# Altium footprint library GPS_Traking_V1_1.PcbLib: 54 footprints (part 3 of 4)
Each footprint in its own frame and in the unit in brackets; x right, y up, seen from the top. Pads: shape width x height; smd on the part's side, far side on the other; paste and mask are expansions set on the pad; w line width, h text height; cw(c..) or ccw(c..) is an arc to the next point about the centre after c.
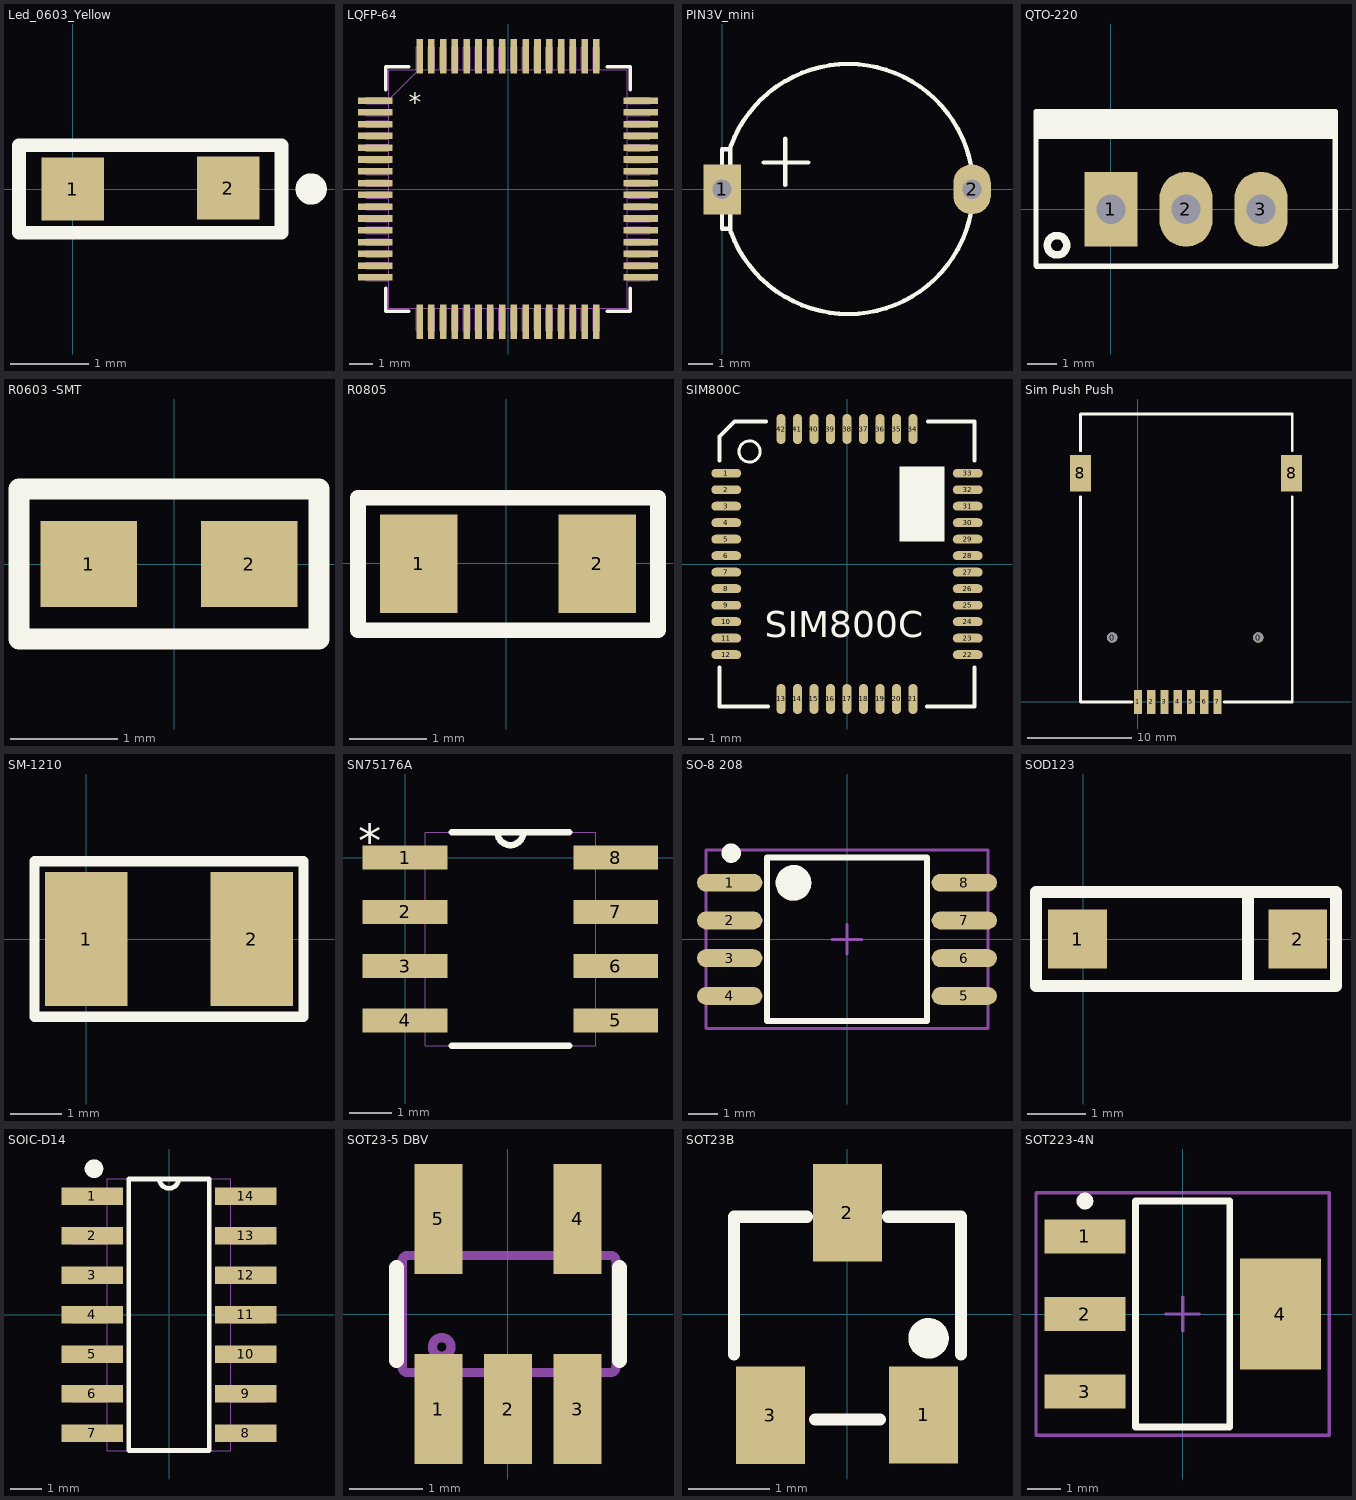
[diagram p2: the footprints below, top view; thin cyan lines are the x and y axes]

## Led_0603_Yellow [mm]
pads (2):
  rect 0.8x0.8 smd: 1(0,0) 2(1.991,0.013)
Top Overlay:
  circle w0.2: c3.048,0 r0.1
  lines w0.178: -0.686,-0.559 2.667,-0.559 2.667,0.559 -0.686,0.559 -0.686,-0.559
3D body "User Library-led0603_YEL.STEP": height 1.1, standoff 0, extent 0.206,-0.4 1.826,0.4

## LQFP-64 [mil]
pads (64):
  rect 58x11 smd: 1(-221.5,147.64) 2(-221.5,127.95) 3(-221.5,108.27) 4(-221.5,88.58) 5(-221.5,68.9) 6(-221.5,49.21) 7(-221.5,29.53) 8(-221.5,9.84) 9(-221.5,-9.84) 10(-221.5,-29.53) 11(-221.5,-49.21) 12(-221.5,-68.9) 13(-221.5,-88.58) 14(-221.5,-108.27) 15(-221.5,-127.95) 16(-221.5,-147.64) 33(221.5,-147.64) 34(221.5,-127.95) 35(221.5,-108.27) 36(221.5,-88.58) 37(221.5,-68.9) 38(221.5,-49.21) 39(221.5,-29.53) 40(221.5,-9.84) 41(221.5,9.84) 42(221.5,29.53) 43(221.5,49.21) 44(221.5,68.9) 45(221.5,88.58) 46(221.5,108.27) 47(221.5,127.95) 48(221.5,147.64)
  rect 11x58 smd: 17(-147.64,-221.5) 18(-127.95,-221.5) 19(-108.27,-221.5) 20(-88.58,-221.5) 21(-68.9,-221.5) 22(-49.21,-221.5) 23(-29.53,-221.5) 24(-9.84,-221.5) 25(9.84,-221.5) 26(29.53,-221.5) 27(49.21,-221.5) 28(68.9,-221.5) 29(88.58,-221.5) 30(108.27,-221.5) 31(127.95,-221.5) 32(147.64,-221.5) 49(147.64,221.5) 50(127.95,221.5) 51(108.27,221.5) 52(88.58,221.5) 53(68.9,221.5) 54(49.21,221.5) 55(29.53,221.5) 56(9.84,221.5) 57(-9.84,221.5) 58(-29.53,221.5) 59(-49.21,221.5) 60(-68.9,221.5) 61(-88.58,221.5) 62(-108.27,221.5) 63(-127.95,221.5) 64(-147.64,221.5)
Top Overlay:
  lines w6: -204,-166.24 -204,-204 -166.24,-204 ; -204,166.24 -204,204 -166.24,204 ; 166.24,-204 204,-204 204,-166.24 ; 166.24,204 204,204 204,166.24
  text "*" at -165.35,129.92 h31.25
Mechanical 1:
  drawing of 261 lines, arcs and shapes, not listed
  text "*" at -184,157.48 h31.25
3D body "LQFP-64.step": height 63.11, standoff 0, extent -236.49,-236.49 236.5,236.5

## PIN3V_mini [mil]
pads (2):
  rect 60x80 hole 31: 1(0,0)
  oval 60x80 hole 31: 2(400,0)
Top Overlay:
  lines w7: 11,64 0,64 0,-63 13,-63 ; 13,-64 13,65 ; 14,-67.81 ccw(c201.94,0.6) 14,69 ; 67,43 138,43 ; 101,7 101,81

## QTO-220 [mm]
pads (3):
  rect 1.8x2.54 hole 0.991: 1(0,0)
  oval 1.8x2.54 hole 0.991: 2(2.54,0) 3(5.08,0)
Top Overlay:
  circle w0.254: c-1.83,-1.219 r0.329
  rectangle: -2.515,2.388 7.62,3.302
  lines w0.178: 7.569,2.718 7.595,2.362 ; -2.54,-1.905 -2.515,-1.93 -1.93,-1.93 7.62,-1.93 7.595,-1.905 7.595,3.302 -2.54,3.302 -2.54,-1.905

## R0603 -SMT [mm]
pads (2):
  rect 0.9x0.8 smd: 1(-0.8,0) 2(0.7,0)
Top Overlay:
  lines w0.2: -1.45,-0.7 -1.45,0.7 1.35,0.7 1.35,-0.7 -1.45,-0.7
Mechanical 16:
  lines w0.15: -1.45,-0.7 1.35,-0.7 1.35,0.7 -1.45,0.7 -1.45,-0.7
3D body "User Library-RES_1609-0603.STEP": height 0.56, standoff 0, extent -0.85,-0.4 0.85,0.4

## R0805 [mm]
pads (2):
  rect 1x1.27 smd: 1(-1.125,-0.011) 2(1.175,-0.011)
Top Overlay:
  lines w0.2: -1.905,-0.864 -1.905,0.838 1.956,0.838 1.956,-0.864 -1.905,-0.864
3D body "User Library-RES_2013-0805.STEP": height 0.76, standoff 0, extent -1.099,-0.686 1.201,0.664

## SIM800C [mm]
pads (42):
  oval 2x0.6 smd: 1(-8.05,6.05) 2(-8.05,4.95) 3(-8.05,3.85) 4(-8.05,2.75) 5(-8.05,1.65) 6(-8.05,0.55) 7(-8.05,-0.55) 8(-8.05,-1.65) 9(-8.05,-2.75) 10(-8.05,-3.85) 11(-8.05,-4.95) 12(-8.05,-6.05) 22(8.05,-6.05) 23(8.05,-4.95) 24(8.05,-3.85) 25(8.05,-2.75) 26(8.05,-1.65) 27(8.05,-0.55) 28(8.05,0.55) 29(8.05,1.65) 30(8.05,2.75) 31(8.05,3.85) 32(8.05,4.95) 33(8.05,6.05)
  oval 0.6x2 smd: 13(-4.4,-9) 14(-3.3,-9) 15(-2.2,-9) 16(-1.1,-9) 17(0,-9) 18(1.1,-9) 19(2.2,-9) 20(3.3,-9) 21(4.4,-9) 34(4.4,9) 35(3.3,9) 36(2.2,9) 37(1.1,9) 38(0,9) 39(-1.1,9) 40(-2.2,9) 41(-3.3,9) 42(-4.4,9)
Top Overlay:
  circle w0.203: c-6.5,7.5 r0.707
  rectangle: 3.5,1.5 6.5,6.5
  lines w0.25: -8.5,-6.875 -8.5,-9.5 -5.25,-9.5 ; -8.5,6.875 -8.5,8.5 -7.5,9.5 -5.375,9.5 ; 5.325,-9.5 5.5,-9.5 8.5,-9.5 8.5,-6.875 ; 5.375,9.5 8.5,9.5 8.5,6.875
  text "SIM800C" at -5.5,-5.5 h3
Top Solder:
  lines w0.152: -0.5,0 0.5,0 ; 0,-0.5 0,0.5
3D body "SIM800C.STEP": height 1.9, standoff 0, extent -7.85,-8.8 7.85,8.8

## Sim Push Push [mm]
pads (11):
  round 1 hole 1: 0(-2.48,6.18) 0(11.52,6.18)
  rect 0.8x2.3 smd: 1(0,0) 2(1.27,0) 3(2.54,0) 4(3.81,0) 5(5.08,0) 6(6.35,0) 7(7.62,0)
  rect 2x3.5 smd: 8(-5.52,21.93) 8(14.73,21.93)
Top Overlay:
  lines w0.254: -5.5,19.68 -5.5,0 -0.6,0 ; -5.5,24.08 -5.5,27.6 14.8,27.6 14.8,24.08 ; 8.27,0 14.8,0 14.8,19.68
3D body "User Library-SIM_holder.STEP": height 1.95, standoff 0, extent -5.68,0.055 14.52,27.905

## SM-1210 [mm]
pads (2):
  rect 1.6x2.6 smd: 1(0,0) 2(3.2,0)
Top Overlay:
  lines w0.2: -1,-1.5 4.2,-1.5 4.2,1.5 -1,1.5 -1,-1.5
3D body "Cap_1210.step": height 2.5, standoff 0, extent 0,-1.25 3.2,1.25

## SN75176A [mil]
pads (8):
  rect 78x22 smd: 1(0,0) 2(0,-50) 3(0,-100) 4(0,-150) 5(194,-150) 6(194,-100) 7(194,-50) 8(194,0)
Top Overlay:
  lines w6: 42.92,-173.5 151.08,-173.5 ; 42.92,23.5 151.08,23.5 ; 85,23.5 ccw(c97,23.5) 109,23.5
  text "*" at -43.31,0 h31.25
Mechanical 1:
  lines w1: 85,23.5 ccw(c97,23.5) 109,23.5 ; -25,-160 -25,-140 18.5,-140 18.5,-160 -25,-160 ; -25,-110 -25,-90 18.5,-90 18.5,-110 -25,-110 ; -25,-60 -25,-40 18.5,-40 18.5,-60 -25,-60 ; -25,-10 -25,10 18.5,10 18.5,-10 -25,-10 ; 18.5,-173.5 175.5,-173.5 175.5,23.5 18.5,23.5 18.5,-173.5 ; 175.5,-160 175.5,-140 219,-140 219,-160 175.5,-160 ; 175.5,-110 175.5,-90 219,-90 219,-110 175.5,-110 ; 175.5,-60 175.5,-40 219,-40 219,-60 175.5,-60 ; 175.5,-10 175.5,10 219,10 219,-10 175.5,-10
  text "*" at -9,33 h31.25
3D body "D0008A.stp": height 64.61, standoff 0.63, extent -18.1,-170.46 218.11,22.46

## SO-8 208 [mm]
pads (8):
  oval 2.2x0.6 smd: 1(-3.95,1.905) 2(-3.95,0.635) 3(-3.95,-0.635) 4(-3.95,-1.905) 5(3.95,-1.905) 6(3.95,-0.635) 7(3.95,0.635) 8(3.95,1.905)
Top Overlay:
  circle w0.6: c-1.8,1.9 r0.3
  circle w0.4: c-3.9,2.9 r0.125
  lines w0.2: -2.7,-2.75 2.7,-2.75 2.7,2.75 -2.7,2.75 -2.7,-2.75
Mechanical 13:
  circle w0.1: c-1.825,1.85 r0.5
  lines w0.1: -2.725,-2.75 2.725,-2.75 2.725,2.75 -2.725,2.75 -2.725,-2.75
Mechanical 15:
  lines w0.1: -0.5,0 0.5,0 ; 0,-0.5 0,0.5 ; -4.75,-3 4.75,-3 4.75,3 -4.75,3 -4.75,-3
3D body "SOIC-8-208.STEP": height 2.2, standoff 0.05, extent -4.1,-2.7 4.1,2.7

## SOD123 [mm]
pads (2):
  rect 1x1 smd: 1(-0.092,0) 2(3.65,0)
Top Overlay:
  lines w0.2: 2.802,-0.8 2.802,0.8 ; -0.8,-0.8 -0.8,0.8 4.3,0.8 4.3,-0.8 -0.8,-0.8
3D body "SOD123.step": height 1.27, standoff 0, extent -0.05,-0.8 3.65,0.8

## SOIC-D14 [mil]
pads (14):
  rect 78x22 smd: 1(-97,150) 2(-97,100) 3(-97,50) 4(-97,0) 5(-97,-50) 6(-97,-100) 7(-97,-150) 8(97,-150) 9(97,-100) 10(97,-50) 11(97,0) 12(97,50) 13(97,100) 14(97,150)
Top Overlay:
  circle w11.81: c-95,185 r5.91
  lines w5.91: -50.89,-172 50.89,-172 50.89,172 -50.89,172 -50.89,-172
  lines w6: -12,172 ccw(c0,172) 12,172
Mechanical 1:
  lines w1: -12,172 ccw(c0,172) 12,172 ; -122,-160 -78.5,-160 -78.5,-140 -122,-140 -122,-160 ; -122,-110 -78.5,-110 -78.5,-90 -122,-90 -122,-110 ; -122,-60 -78.5,-60 -78.5,-40 -122,-40 -122,-60 ; -122,-10 -78.5,-10 -78.5,10 -122,10 -122,-10 ; -122,40 -78.5,40 -78.5,60 -122,60 -122,40 ; -122,90 -78.5,90 -78.5,110 -122,110 -122,90 ; -122,140 -78.5,140 -78.5,160 -122,160 -122,140 ; -78.5,-172 -78.5,172 78.5,172 78.5,-172 -78.5,-172 ; 78.5,-160 122,-160 122,-140 78.5,-140 78.5,-160 ; 78.5,-110 122,-110 122,-90 78.5,-90 78.5,-110 ; 78.5,-60 122,-60 122,-40 78.5,-40 78.5,-60 ; 78.5,-10 122,-10 122,10 78.5,10 78.5,-10 ; 78.5,40 122,40 122,60 78.5,60 78.5,40 ; 78.5,90 122,90 122,110 78.5,110 78.5,90 ; 78.5,140 122,140 122,160 78.5,160 78.5,140

## SOT23-5 DBV [mm]
pads (5):
  rect 0.65x1.5 smd: 1(-0.95,-1.3) 2(0,-1.3) 3(0.95,-1.3) 4(0.95,1.3) 5(-0.95,1.3)
Top Overlay:
  lines w0.2: -1.524,-0.635 -1.524,0.635 ; 1.524,-0.635 1.524,0.635
Mechanical 1:
  lines w0.127: -1.446,0.724 cw(c-1.37,0.723) -1.37,0.8 1.399,0.8 cw(c1.399,0.723) 1.475,0.724 ; -1.446,0.723 -1.446,-0.724 -1.446,-0.725 ccw(c-1.37,-0.724) -1.37,-0.801 1.399,-0.801 ccw(c1.399,-0.724) 1.475,-0.725 1.475,-0.724 1.475,0.723 ; -1.446,0.723 -1.446,0.724 ; 1.475,0.723 1.475,0.724 ; -1.125,-1.423 -1.125,-1.206 -1.125,-1.113 -1.125,-1.081 -1.125,-0.828 -1.125,-0.801 -0.75,-0.801 -0.75,-0.828 -0.75,-1.081 -0.75,-1.113 -0.75,-1.206 -0.75,-1.423 -1.125,-1.423 ; -1.125,0.8 -0.75,0.8 -0.75,0.827 -0.75,1.08 -0.75,1.112 -0.75,1.205 -0.75,1.422 -1.125,1.422 -1.125,1.205 -1.125,1.112 -1.125,1.08 -1.125,0.827 -1.125,0.8 ; -0.906,-0.576 cw(c-0.906,-0.449) -0.906,-0.323 cw(c-0.906,-0.449) -0.906,-0.576 ; -0.173,-1.423 -0.173,-1.206 -0.173,-1.113 -0.173,-1.081 -0.173,-0.828 -0.173,-0.801 0.202,-0.801 0.202,-0.828 0.202,-1.081 0.202,-1.113 0.202,-1.206 0.202,-1.423 -0.173,-1.423 ; 0.78,-1.423 0.78,-1.206 0.78,-1.113 0.78,-1.081 0.78,-0.828 0.78,-0.801 1.155,-0.801 1.155,-0.828 1.155,-1.081 1.155,-1.113 1.155,-1.206 1.155,-1.423 0.78,-1.423 ; 0.78,0.8 1.155,0.8 1.155,0.827 1.155,1.08 1.155,1.112 1.155,1.205 1.155,1.422 0.78,1.422 0.78,1.205 0.78,1.112 0.78,1.08 0.78,0.827 0.78,0.8
3D body "sot23.stp": height 1.1, standoff -0.01, extent -1.461,-1.422 1.46,1.422

## SOT23B [mm]
pads (3):
  rect 0.85x1.2 smd: 1(0.94,-1.245) 2(0,1.25) 3(-0.95,-1.25)
Top Overlay:
  circle w0.25: c1,-0.3 r0.125
  lines w0.15: -1.4,-0.5 -1.4,1.2 -0.5,1.2 ; -0.4,-1.3 0.4,-1.3 ; 0.5,1.2 1.4,1.2 1.4,-0.5
3D body "SW3DPS-SOT-23-DEFAULT.STEP": height 1.06, standoff -0.04, extent -1.5,-1.301 1.5,1.199

## SOT223-4N [mm]
pads (4):
  rect 2.4x1 smd: 1(-2.9,2.3) 2(-2.9,0) 3(-2.9,-2.3)
  rect 2.4x3.3 smd: 4(2.9,0)
Top Overlay:
  circle w0.25: c-2.9,3.35 r0.125
  lines w0.2: -1.4,-3.35 1.4,-3.35 1.4,3.35 -1.4,3.35 -1.4,-3.35
Mechanical 15:
  lines w0.1: -0.5,0 0.5,0 ; 0,-0.5 0,0.5 ; -4.35,-3.6 4.35,-3.6 4.35,3.6 -4.35,3.6 -4.35,-3.6
3D body "SW3dPS-Regulator.STEP": height 1.72, standoff 0.02, extent -3.395,-3.274 3.496,3.226